# Altium footprint library Pin_header.PcbLib: 119 footprints (part 1 of 8)
Each footprint in its own frame and in the unit in brackets; x right, y up, seen from the top. Pads: shape width x height; smd on the part's side, far side on the other; paste and mask are expansions set on the pad; w line width, h text height; cw(c..) or ccw(c..) is an arc to the next point about the centre after c.
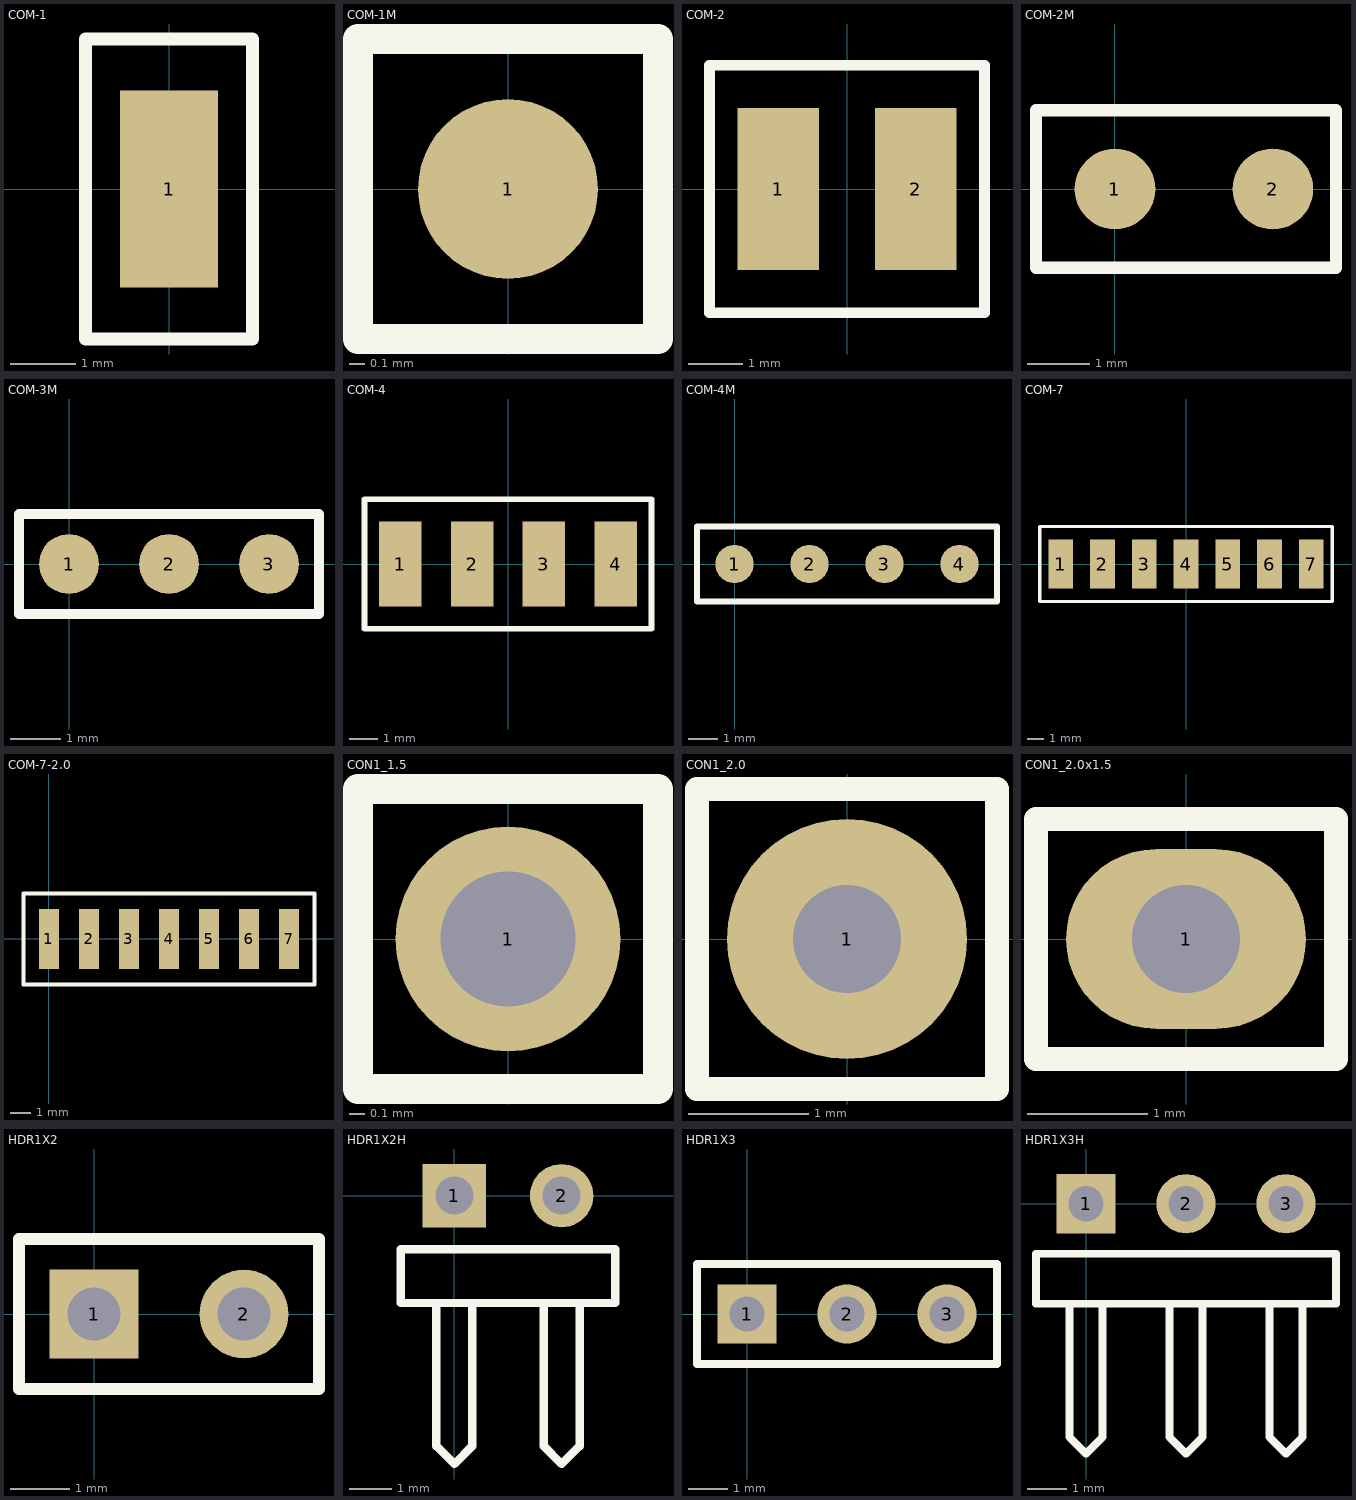
[diagram p0: the footprints below, top view; thin cyan lines are the x and y axes]

## COM-1 [mm]
pads (1):
  rect 1.5x3 smd: 1(0,0)
Top Overlay:
  lines w0.2: -1.27,-2.286 -1.27,0.254 -1.27,2.286 1.27,2.286 1.27,-2.286 -1.27,-2.286

## COM-1M [mm]
pads (1):
  round 1.2 smd: 1(0,0)
Top Overlay:
  lines w0.2: -1,-1 1,-1 1,1 -1,1 -1,-1

## COM-2 [mm]
pads (2):
  rect 1.5x3 smd: 1(-1.27,0) 2(1.27,0)
Top Overlay:
  lines w0.2: -2.54,-2.286 2.54,-2.286 2.54,2.286 -2.54,2.286 -2.54,0.254 -2.54,-2.286

## COM-2M [mm]
pads (2):
  round 1.3 smd: 1(0,0) 2(2.54,0)
Top Overlay:
  lines w0.2: -1.27,-1.27 -1.27,1.27 3.556,1.27 3.556,-1.27 -1.27,-1.27

## COM-3M [mm]
pads (3):
  round 1.2 smd: 1(0,0) 2(2,0) 3(4,0)
Top Overlay:
  lines w0.2: -1,-1 5,-1 5,1 -1,1 -1,-1

## COM-4 [mm]
pads (4):
  rect 1.5x3 smd: 1(-3.81,0) 2(-1.27,0) 3(1.27,0) 4(3.81,0)
Top Overlay:
  lines w0.2: -5.08,-2.286 5.08,-2.286 5.08,0.254 5.08,2.286 -5.08,2.286 -5.08,0.254 -5.08,-2.286

## COM-4M [mm]
pads (4):
  round 1.3 smd: 1(0,0) 2(2.54,0) 3(5.08,0) 4(7.62,0)
Top Overlay:
  lines w0.2: -1.27,-1.27 -1.27,1.27 8.89,1.27 8.89,-1.27 -1.27,-1.27

## COM-7 [mm]
pads (7):
  rect 1.5x3 smd: 1(-7.62,0) 2(-5.08,0) 3(-2.54,0) 4(0,0) 5(2.54,0) 6(5.08,0) 7(7.62,0)
Top Overlay:
  lines w0.2: -8.89,-2.286 -8.89,0.254 -8.89,2.286 1.27,2.286 8.89,2.286 8.89,0.254 8.89,-2.286 1.27,-2.286 -8.89,-2.286

## COM-7-2.0 [mm]
pads (7):
  rect 1x3 smd: 1(0,0) 2(2,0) 3(4,0) 4(6,0) 5(8,0) 6(10,0) 7(12,0)
Top Overlay:
  lines w0.2: -1.27,-2.286 -1.27,0.254 -1.27,2.286 8.89,2.286 13.27,2.286 13.27,0.254 13.27,-2.286 8.89,-2.286 -1.27,-2.286

## CON1_1.5 [mm]
pads (1):
  round 1.5 hole 0.9: 1(0,0)
Top Overlay:
  lines w0.2: -1,-1 1,-1 1,1 -1,1 -1,-1

## CON1_2.0 [mm]
pads (1):
  round 2 hole 0.9: 1(0,0)
Top Overlay:
  lines w0.2: -1.25,-1.25 -1.25,1.25 1.25,1.25 1.25,-1.25 -1.25,-1.25

## CON1_2.0x1.5 [mm]
pads (1):
  oval 2x1.5 hole 0.9: 1(0,0)
Top Overlay:
  lines w0.2: -1.25,-1 -1.25,1 1.25,1 1.25,-1 -1.25,-1

## HDR1X2 [mm] "Connector; Header; 2 Position"
pads (2):
  rect 1.5x1.5 hole 0.9: 1(0,0)
  round 1.5 hole 0.9: 2(2.54,0)
Top Overlay:
  lines w0.2: -1.27,-1.27 -1.27,1.27 3.81,1.27 3.81,-1.27 -1.27,-1.27

## HDR1X2H [mm] "Connector; Header; 2 Position; Right Angle"
pads (2):
  rect 1.5x1.5 hole 0.9: 1(0,0)
  round 1.5 hole 0.9: 2(2.54,0)
Top Overlay:
  lines w0.2: -0.423,-2.54 -0.423,-5.927 0,-6.35 0.423,-5.927 0.423,-2.54 ; 2.117,-2.54 2.117,-5.927 2.54,-6.35 2.963,-5.927 2.963,-2.54 ; -1.27,-2.54 -1.27,-1.27 3.81,-1.27 3.81,-2.54 -1.27,-2.54

## HDR1X3 [mm] "Connector; Header; 3 Position"
pads (3):
  rect 1.5x1.5 hole 0.9: 1(0,0)
  round 1.5 hole 0.9: 2(2.54,0) 3(5.08,0)
Top Overlay:
  lines w0.2: -1.27,-1.27 6.35,-1.27 6.35,1.27 -1.27,1.27 -1.27,-1.27

## HDR1X3H [mm] "Connector; Header; 3 Position; Right Angle"
pads (3):
  rect 1.5x1.5 hole 0.9: 1(0,0)
  round 1.5 hole 0.9: 2(2.54,0) 3(5.08,0)
Top Overlay:
  lines w0.2: -0.423,-2.54 -0.423,-5.927 0,-6.35 0.423,-5.927 0.423,-2.54 ; 2.117,-2.54 2.117,-5.927 2.54,-6.35 2.963,-5.927 2.963,-2.54 ; 4.657,-2.54 4.657,-5.927 5.08,-6.35 5.503,-5.927 5.503,-2.54 ; -1.27,-2.54 6.35,-2.54 6.35,-1.27 -1.27,-1.27 -1.27,-2.54